# Altium schematic symbol library 运放.SchLib: 4 symbols
Pins are listed as number, name and electrical type; pins without a type are passive.

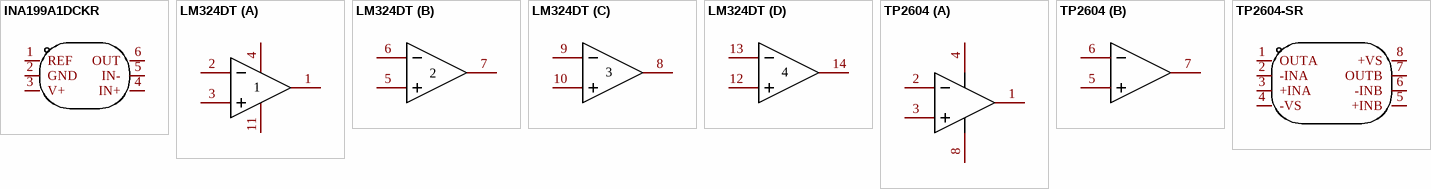
[diagram p0: symbols INA199A1DCKR to TP2604-SR]

## INA199A1DCKR
designator U??  (value not drawn)
Manufacturer: TI(德州仪器); Add into BOM: yes; Supply Voltage: -300mV~26V; Supply Current: 300uA; Symbol: INA199A1DCKR; Device: INA199A1DCKR; LCSC Part Name: INA199A1DCKR; Supplier Part: C59135; Manufacturer Part: INA199A1DCKR; Supplier Footprint: SOT-363(SC-70-6); JLCPCB Part Class: Extended Part; Datasheet: https://www.ti.com/cn/lit/gpn/ina199; Supplier: LCSC; Convert to PCB: yes; Operating Temperature: -40℃~+125℃
footprint SC-70-6_L2.2-W1.3-P0.65-LS2.1-BR
pins: 1 REF, 2 GND, 3 V+, 4 IN+, 5 IN-, 6 OUT

## LM324DT
designator U??  (value not drawn)
Manufacturer: ST(意法半导体); Add into BOM: yes; Amplifier Type: General Purpose; Number of Circuits: 4; Gain Bandwidth Product（GBP）: 1.3MHz; Slew Rate（SR）: 0.4 V/us; Supply Voltage（Single）: 3V ~ 32V, ±1.5V ~ 16V; Iq per channel (Typ): 1.5mA; Name: LM324DT; Symbol: LM324DT; Device: LM324DT; LCSC Part Name: LM324DT; Supplier Part: C71035; Manufacturer Part: LM324DT; Supplier Footprint: SOIC-14_150mil; JLCPCB Part Class: Basic Part; Datasheet: https://atta.szlcsc.com/upload/public/pdf/source/20160408/1460100649718.pdf; Supplier: LCSC; Convert to PCB: yes; Output Type: -; Operating Temperature: 0°C ~ 70°C
footprint SOIC-14_L8.7-W3.9-P1.27-LS6.0-BL
3D model SOIC-14_L8.6-W3.9-H1.8-LS6.0-P1.27
part A pins: 1 OUT1, 2 IN1-, 3 IN1+, 4 VCC+, 11 VCC-
part B pins: 5 IN2+, 6 IN2-, 7 OUT2
part C pins: 8 OUT3, 9 IN3-, 10 IN3+
part D pins: 12 IN4+, 13 IN4-, 14 OUT4

## TP2604
designator U??  (value not drawn)
Manufacturer: MSKSEMI(美森科); Name: LM358; Symbol: LM358_C5252902; Add into BOM: yes; Number of Circuits: 双路; Supply Voltage: 3V~36V; Voltage - Input Offset(Vos): 5mV; Current - Input Bias(Ib): 50nA; Gain Bandwidth Product(GBP): 1.2MHz; Common Mode Rejection Ratio (CMRR): 80dB; Supply Current: 300uA; Device: LM358_C5252902; LCSC Part Name: 增益带宽(GBP):1.2MHz VIO:5mV  LM358; Supplier Part: C5252902; Manufacturer Part: LM358; Supplier Footprint: SOP-8; JLCPCB Part Class: Extended Part; Datasheet: https://atta.szlcsc.com/upload/public/pdf/source/20221111/EFA130B3B4599AE68A453AC9B85C4BC9.pdf; Supplier: LCSC; Convert to PCB: yes; Operating Temperature: 0℃~+70℃
footprint SOIC-8_L4.9-W3.9-P1.27-LS6.0-BL
3D model SOP-8_L4.9-W3.9-P1.27-LS6.0-BL-1
part A pins: 1 OUT1, 2 IN1-, 3 IN1+, 4 VCC, 8 VEE
part B pins: 5 IN2+, 6 IN2-, 7 OUT2

## TP2604-SR
designator U??  (value not drawn)
Manufacturer: 3PEAK; Add into BOM: yes; Amplifier Type: General Purpose; Number of Circuits: 2; Gain Bandwidth Product（GBP）: 10MHz; Slew Rate（SR）: 6.5 V/us; Supply Voltage（Single）: 2.7V ~ 36V, ±1.35V ~ 18V; Iq per channel (Typ): 1.2mA; Name: TP2604-SR; Symbol: TP2604-SR; Device: TP2604-SR; LCSC Part Name: TP2604-SR; Supplier Part: C126446; Manufacturer Part: TP2604-SR; Supplier Footprint: SOIC-8-150mil; JLCPCB Part Class: Extended Part; Datasheet: https://atta.szlcsc.com/upload/public/pdf/source/20170821/C126446_1503303332965901583.pdf; Supplier: LCSC; Convert to PCB: yes; Output Type: -; Operating Temperature: -40°C ~ 125°C
footprint SOIC-8_L4.9-W3.9-P1.27-LS6.0-BL
3D model SOIC-8_L4.9-W3.9-H1.7-LS6.0-P1.27
pins: 1 OUTA, 2 -INA, 3 +INA, 4 -VS, 5 +INB, 6 -INB, 7 OUTB, 8 +VS